# Altium schematic symbol library 10118192-0001LF.SchLib: 1 symbol
Pins are listed as number, name and electrical type; pins without a type are passive.

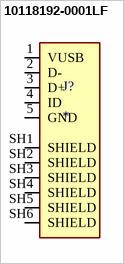
[diagram p0: symbol 10118192-0001LF]

## 10118192-0001LF
designator J?
Single Port 5 Contact Horizontal Right Angle Shielded Micro B USB 2.0 Connector; MP: 10118192-0001LF; Value: *; Package: None; Availability: Unavailable; Price: None
footprint AMPHENOL_10118192-0001LF
pins: 1 VUSB, 2 D-, 3 D+, 4 ID, 5 GND, SH1 SHIELD, SH2 SHIELD, SH3 SHIELD, SH4 SHIELD, SH5 SHIELD, SH6 SHIELD